# Altium schematic symbol library Devices.SchLib: 11 symbols
Pins are listed as number, name and electrical type; pins without a type are passive.

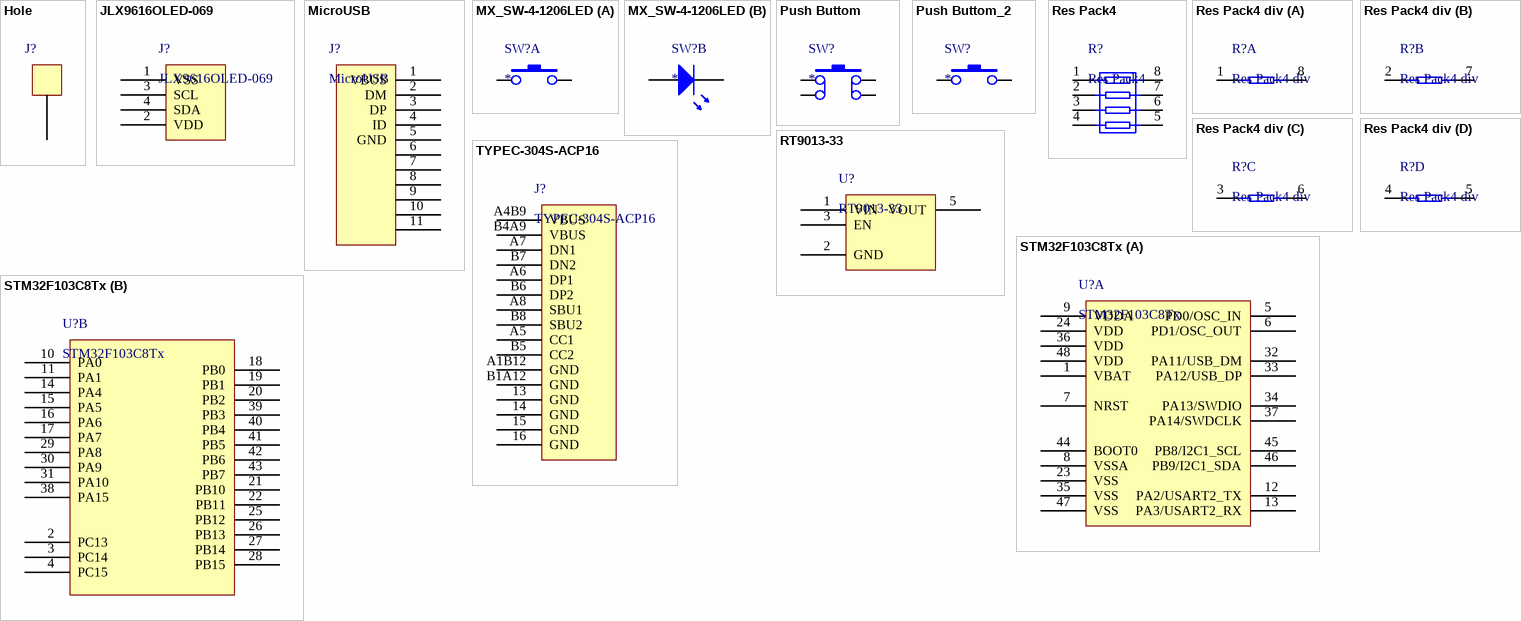
[diagram p0: symbols Hole to TYPEC-304S-ACP16]

## Hole
designator J?  (value not drawn)
pins: 1

## JLX9616OLED-069
designator J?
pins: 1 VSS, 2 VDD, 3 SCL, 4 SDA

## MicroUSB
designator J?
footprint MicroUSB
pins: 1 VBUS, 2 DM, 3 DP, 4 ID, 5 GND, 6, 7, 8, 9, 10, 11

## MX_SW-4-1206LED
designator SW?
footprint MX_SW-4-1206LED (with Fixation pins  1-Pole)
part A pins: 1, 2
part B pins: 3, 4

## Push Buttom
designator SW?
footprint Push Buttom SMD
pins: 1, 2, 3, 4

## Push Buttom_2
designator SW?
footprint Push Buttom SMD_2
pins: 1, 2

## Res Pack4
designator R?
Resistor Packs; Value: 10K
footprint 8P4R-0402
footprint 8P4R-0402
pins: 1, 2, 3, 4, 5, 6, 7, 8

## Res Pack4 div
designator R?
Resistor Pack 4 div; Value: 10K
footprint 8P4R-0402
footprint 8P4R-0402
part A pins: 1, 8
part B pins: 2, 7
part C pins: 3, 6
part D pins: 4, 5

## RT9013-33
designator U?
RT9013 3.3V  LDO Regulator
footprint SOT-23-5 (SOT23, 5-Leads, Body 2.90x2.79mm, Pitch 0.95mm, IPC Medium Density)
pins: 1 VIN, 2 GND, 3 EN, 4 NC hidden, 5 VOUT

## STM32F103C8Tx
designator U?
STM32F103C8Tx series arm mcu
footprint PQFP48
part A pins: 1 VBAT, 5 PD0/OSC_IN, 6 PD1/OSC_OUT, 7 NRST, 8 VSSA, 9 VDDA, 12 PA2/USART2_TX, 13 PA3/USART2_RX, 23 VSS, 24 VDD, 32 PA11/USB_DM, 33 PA12/USB_DP, 34 PA13/SWDIO, 35 VSS, 36 VDD, 37 PA14/SWDCLK, 44 BOOT0, 45 PB8/I2C1_SCL, 46 PB9/I2C1_SDA, 47 VSS, 48 VDD
part B pins: 2 PC13, 3 PC14, 4 PC15, 10 PA0, 11 PA1, 14 PA4, 15 PA5, 16 PA6, 17 PA7, 18 PB0, 19 PB1, 20 PB2, 21 PB10, 22 PB11, 25 PB12, 26 PB13, 27 PB14, 28 PB15, 29 PA8, 30 PA9, 31 PA10, 38 PA15, 39 PB3, 40 PB4, 41 PB5, 42 PB6, 43 PB7

## TYPEC-304S-ACP16
designator J?
footprint USB-C-SMD_TYPEC-304S-ACP16
pins: 13 GND, 14 GND, 15 GND, 16 GND, A1B12 GND, A4B9 VBUS, A5 CC1, A6 DP1, A7 DN1, A8 SBU1, B1A12 GND, B4A9 VBUS, B5 CC2, B6 DP2, B7 DN2, B8 SBU2